# EAGLE library part RJS-PB61302 (library eagle-library-edeca.net-v5)
Illuminated DPDT switch, made by RJS Electronics. Previously Rapid 78-2265
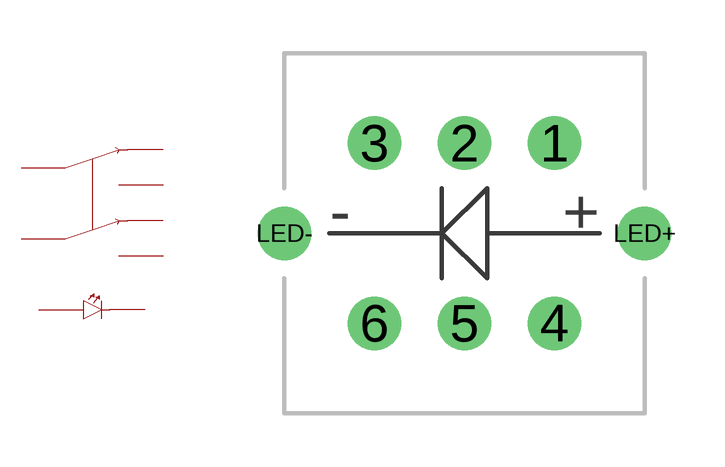
[diagram p13: symbol with the pads of RJS-SW-ILLUMINATED; footprint RJS-SW-ILLUMINATED]

Designator prefix -

## RJS-PB61302  [RJS-SW-ILLUMINATED]
1  1
2  2
3  3
4  4
5  5
6  6
LED+  LED+
LED-  LED-

## Footprint RJS-SW-ILLUMINATED (pad centres in mm)
DPDT push switch by RJS Electronics Limited - Bedford, UK. Previously stocked by Rapid Electronics, e.g. 78-2265.
drill 1: 1 2.54,2.54; 2 0,2.54; 3 -2.54,2.54; 4 2.54,-2.54; 5 0,-2.54; 6 -2.54,-2.54; LED+ 5.08,0; LED- -5.08,0